# Altium schematic symbol library L7805CDT-TR.Schlib: 1 symbol
Pins are listed as number, name and electrical type; pins without a type are passive.

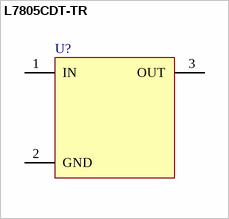
[diagram p0: symbol L7805CDT-TR]

## L7805CDT-TR
designator U?
pins: 1 IN, 2 GND, 3 OUT